# Altium schematic symbol library RAVEN 1.0.SchLib: 12 symbols
Pins are listed as number, name and electrical type; pins without a type are passive.

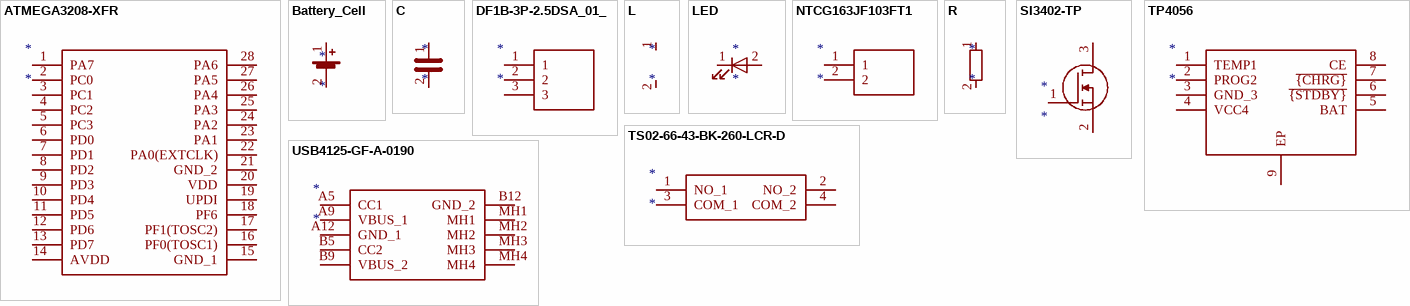
[diagram p0: symbols ATMEGA3208-XFR to USB4125-GF-A-0190]

## ATMEGA3208-XFR
designator *
pins: 1 PA7, 2 PC0, 3 PC1, 4 PC2, 5 PC3, 6 PD0, 7 PD1, 8 PD2, 9 PD3, 10 PD4, 11 PD5, 12 PD6, 13 PD7, 14 AVDD, 15 GND_1, 16 PF0(TOSC1), 17 PF1(TOSC2), 18 PF6, 19 UPDI, 20 VDD, 21 GND_2, 22 PA0(EXTCLK), 23 PA1, 24 PA2, 25 PA3, 26 PA4, 27 PA5, 28 PA6

## Battery_Cell
designator *
pins: 1 +, 2 -

## C
designator *
pins: 1, 2

## DF1B-3P-2.5DSA_01_
designator *
pins: 1, 2, 3

## L
designator *
pins: 1, 2

## LED
designator *
pins: 1 K, 2 A

## NTCG163JF103FT1
designator *
pins: 1, 2

## R
designator *
pins: 1, 2

## SI3402-TP
designator *
pins: 1, 2, 3

## TP4056
designator *
pins: 1 TEMP1, 2 PROG2, 3 GND_3, 4 VCC4, 5 BAT, 6 ~{{STDBY}}, 7 ~{{CHRG}}, 8 CE, 9 EP

## TS02-66-43-BK-260-LCR-D
designator *
pins: 1 NO_1, 2 NO_2, 3 COM_1, 4 COM_2

## USB4125-GF-A-0190
designator *
pins: A5 CC1, A9 VBUS_1, A12 GND_1, B5 CC2, B9 VBUS_2, B12 GND_2, MH1, MH2, MH3, MH4